# EAGLE library part XFMR_B82802A (library EL_Doorsign)
SMT flyback transformers
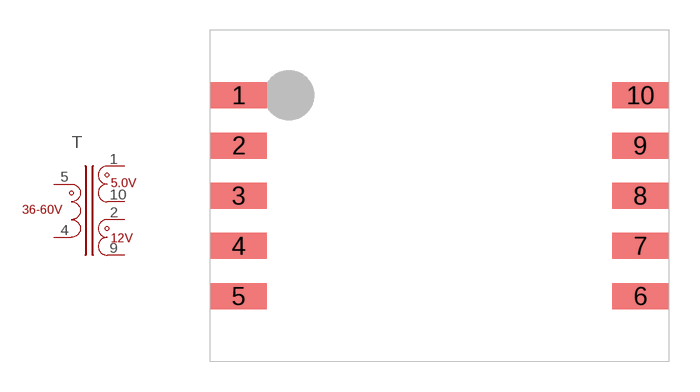
[diagram p1: symbol with the pads of EFD15; footprint EFD15]

Designator prefix T

## XFMR_B82802A (MFG: EPCOS; MPN: B82802A0012A215; PRICE: 6.94; VENDOR: DIGIKEY; VPN: 495-4445-1-ND)  [EFD15]
1  X1A  pas
2  X2A  pas
4  H1B  pas
5  H1A  pas
9  X2B  pas
10  X1B  pas

## Footprint EFD15 (pad centres in mm)
smd 2.8 x 1.3: 1 -10,5; 2 -10,2.5; 3 -10,0; 4 -10,-2.5; 5 -10,-5; 6 10,-5; 7 10,-2.5; 8 10,0; 9 10,2.5; 10 10,5